# EAGLE library part PINS_6 (library act-global-nolan)
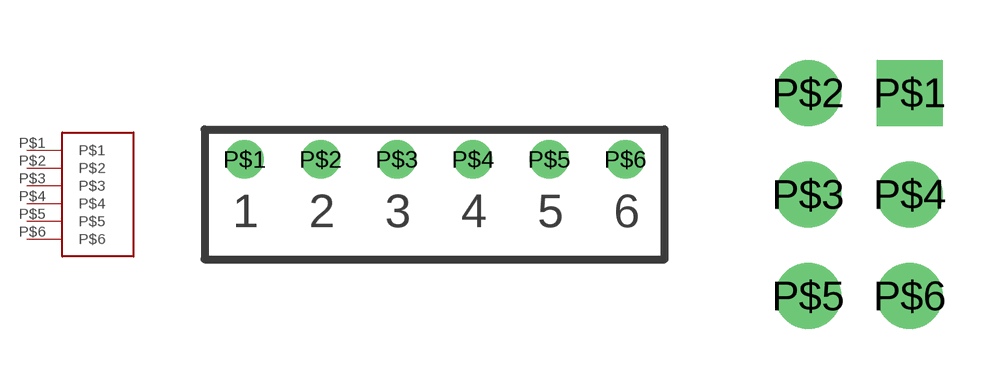
[diagram p8: symbol with the pads of 1X6-3MM81; footprints 1X6-3MM81, PINS_6-2X3]

Designator prefix -

## PINS_6ROW  [1X6-3MM81]
P$1  P$1
P$2  P$2
P$3  P$3
P$4  P$4
P$5  P$5
P$6  P$6

## PINS_6  [PINS_6-2X3]
Pads as for 1X6-3MM81

## Footprint 1X6-3MM81 (pad centres in mm)
drill 1.1 pad 1.93: P$1 0,0; P$2 3.81,0; P$3 7.62,0; P$4 11.43,0; P$5 15.24,0; P$6 19.05,0

## Footprint PINS_6-2X3 (pad centres in mm)
drill 1.1 square: P$1 0,0
drill 1.1: P$2 -2.54,0; P$3 -2.54,-2.54; P$4 0,-2.54; P$5 -2.54,-5.08; P$6 0,-5.08